# Altium footprint library ESC.PcbLib: 30 footprints (part 2 of 2)
Each footprint in its own frame and in the unit in brackets; x right, y up, seen from the top. Pads: shape width x height; smd on the part's side, far side on the other; paste and mask are expansions set on the pad; w line width, h text height; cw(c..) or ccw(c..) is an arc to the next point about the centre after c.
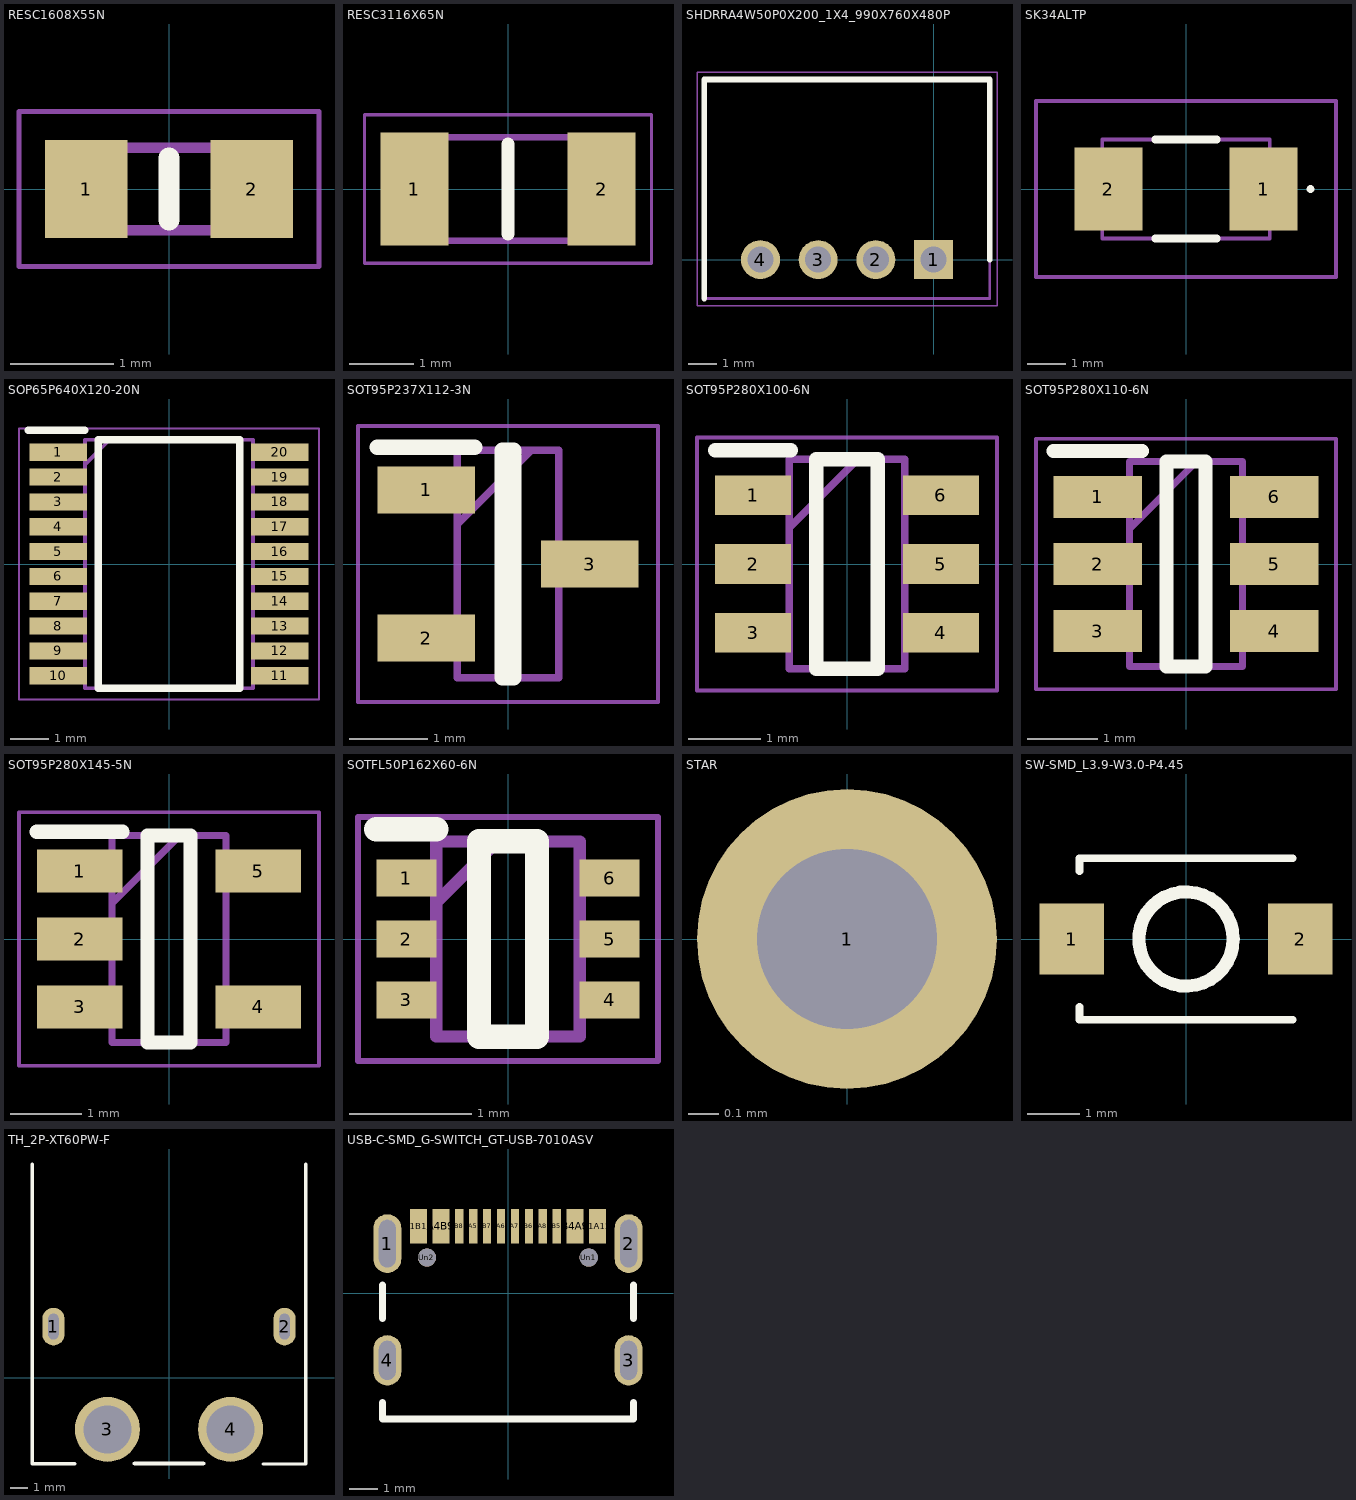
[diagram p1: the footprints below, top view; thin cyan lines are the x and y axes]

## RESC1608X55N [mm]
pads (2):
  rect 0.8x0.95 smd: 1(-0.8,0) 2(0.8,0)
Top Overlay:
  lines w0.2: 0,-0.3 0,0.3
Mechanical 13:
  lines w0.1: -0.8,-0.4 -0.8,0.4 0.8,0.4 0.8,-0.4 -0.8,-0.4
Mechanical 15:
  lines w0.05: -1.45,-0.75 -1.45,0.75 1.45,0.75 1.45,-0.75 -1.45,-0.75
3D body "RC0603FR-0710KL.stp": height 0.55, standoff 0, extent -0.8,-0.4 0.8,0.4

## RESC3116X65N [mm]
pads (2):
  rect 1.05x1.75 smd: 1(-1.45,0) 2(1.45,0)
Top Overlay:
  lines w0.2: 0,-0.7 0,0.7
Mechanical 13:
  lines w0.1: -1.55,-0.8 1.55,-0.8 1.55,0.8 -1.55,0.8 -1.55,-0.8
Mechanical 15:
  lines w0.05: -2.225,-1.15 2.225,-1.15 2.225,1.15 -2.225,1.15 -2.225,-1.15
3D body "RC1206FR-070RL.stp": height 0.65, standoff 0, extent -1.55,-0.8 1.55,0.8

## SHDRRA4W50P0X200_1X4_990X760X480P [mm]
pads (4):
  rect 1.35x1.35 hole 0.9: 1(0,0)
  round 1.35 hole 0.9: 2(-2,0) 3(-4,0) 4(-6,0)
Top Overlay:
  lines w0.2: -7.95,-1.35 -7.95,6.25 1.95,6.25 1.95,0
Mechanical 13:
  lines w0.1: -7.95,-1.35 -7.95,6.25 1.95,6.25 1.95,-1.35 -7.95,-1.35
Mechanical 15:
  lines w0.05: -8.2,-1.6 -8.2,6.5 2.2,6.5 2.2,-1.6 -8.2,-1.6
3D body "CONN-TH_4P-P2.00_S4B-PH-K-S-LF-SN.step": height 4.8, standoff -3.4, extent -7.951,-1.3 1.95,6.3

## SK34ALTP [mm]
pads (2):
  rect 1.78x2.16 smd: 1(2.025,0) 2(-2.025,0)
Top Overlay:
  lines w0.1: 3.2,0 cw(c3.25,0) 3.3,0 cw(c3.25,0) 3.2,0
  lines w0.2: -0.8,-1.292 0.8,-1.292 ; -0.8,1.293 0.8,1.293
Mechanical 13:
  lines w0.1: -2.188,-1.292 -2.188,1.293 2.188,1.293 2.188,-1.292 -2.188,-1.292
Mechanical 15:
  lines w0.1: -3.915,-2.292 -3.915,2.293 3.915,2.293 3.915,-2.292 -3.915,-2.292
3D body "SK34A-LTP.stp": height 2.26, standoff 0, extent -2.698,-1.403 2.702,1.397

## SOP65P640X120-20N [mm]
pads (20):
  rect 1.5x0.45 smd: 1(-2.9,2.925) 2(-2.9,2.275) 3(-2.9,1.625) 4(-2.9,0.975) 5(-2.9,0.325) 6(-2.9,-0.325) 7(-2.9,-0.975) 8(-2.9,-1.625) 9(-2.9,-2.275) 10(-2.9,-2.925) 11(2.9,-2.925) 12(2.9,-2.275) 13(2.9,-1.625) 14(2.9,-0.975) 15(2.9,-0.325) 16(2.9,0.325) 17(2.9,0.975) 18(2.9,1.625) 19(2.9,2.275) 20(2.9,2.925)
Top Overlay:
  lines w0.2: -3.675,3.5 -2.2,3.5 ; -1.85,-3.25 1.85,-3.25 1.85,3.25 -1.85,3.25 -1.85,-3.25
Mechanical 13:
  lines w0.1: -2.2,2.6 -1.55,3.25 ; -2.2,-3.25 2.2,-3.25 2.2,3.25 -2.2,3.25 -2.2,-3.25
Mechanical 15:
  lines w0.05: -3.925,-3.55 3.925,-3.55 3.925,3.55 -3.925,3.55 -3.925,-3.55
3D body "DRV8300DPWR.stp": height 1.13, standoff 0, extent -3.2,-3.25 3.2,3.25

## SOT95P237X112-3N [mm]
pads (3):
  rect 1.25x0.6 smd: 1(-1.05,0.95) 2(-1.05,-0.95) 3(1.05,0)
Top Overlay:
  lines w0.2: -1.675,1.5 -0.425,1.5 ; -0.075,-1.46 -0.075,1.46 0.075,1.46 0.075,-1.46 -0.075,-1.46
Mechanical 13:
  lines w0.1: -0.65,0.51 0.3,1.46 ; -0.65,-1.46 -0.65,1.46 0.65,1.46 0.65,-1.46 -0.65,-1.46
Mechanical 15:
  lines w0.05: -1.925,-1.77 -1.925,1.77 1.925,1.77 1.925,-1.77 -1.925,-1.77
3D body "TMP236A2DBZR.stp": height 1, standoff 0, extent -1.27,-1.46 1.27,1.46

## SOT95P280X100-6N [mm]
pads (6):
  rect 1.05x0.55 smd: 1(-1.3,0.95) 2(-1.3,0) 3(-1.3,-0.95) 4(1.3,-0.95) 5(1.3,0) 6(1.3,0.95)
Top Overlay:
  lines w0.2: -1.825,1.575 -0.775,1.575 ; -0.425,-1.45 -0.425,1.45 0.425,1.45 0.425,-1.45 -0.425,-1.45
Mechanical 13:
  lines w0.1: -0.8,0.5 0.15,1.45 ; -0.8,-1.45 -0.8,1.45 0.8,1.45 0.8,-1.45 -0.8,-1.45
Mechanical 15:
  lines w0.05: -2.075,-1.75 -2.075,1.75 2.075,1.75 2.075,-1.75 -2.075,-1.75
3D body "AP63200WU-7.stp": height 1, standoff 0, extent -1.4,-1.45 1.4,1.45

## SOT95P280X110-6N [mm]
pads (6):
  rect 1.25x0.6 smd: 1(-1.25,0.95) 2(-1.25,0) 3(-1.25,-0.95) 4(1.25,-0.95) 5(1.25,0) 6(1.25,0.95)
Top Overlay:
  lines w0.2: -1.875,1.6 -0.625,1.6 ; -0.275,-1.45 -0.275,1.45 0.275,1.45 0.275,-1.45 -0.275,-1.45
Mechanical 13:
  lines w0.1: -0.8,0.5 0.15,1.45 ; -0.8,-1.45 -0.8,1.45 0.8,1.45 0.8,-1.45 -0.8,-1.45
Mechanical 15:
  lines w0.05: -2.125,-1.775 -2.125,1.775 2.125,1.775 2.125,-1.775 -2.125,-1.775
3D body "TPS54202HDDCR.stp": height 0.97, standoff 0, extent -1.4,-1.45 1.4,1.45

## SOT95P280X145-5N [mm]
pads (5):
  rect 1.2x0.6 smd: 1(-1.25,0.95) 2(-1.25,0) 3(-1.25,-0.95) 4(1.25,-0.95) 5(1.25,0.95)
Top Overlay:
  lines w0.2: -1.85,1.5 -0.65,1.5 ; -0.3,-1.45 0.3,-1.45 0.3,1.45 -0.3,1.45 -0.3,-1.45
Mechanical 13:
  lines w0.1: -0.8,0.5 0.15,1.45 ; -0.8,-1.45 0.8,-1.45 0.8,1.45 -0.8,1.45 -0.8,-1.45
Mechanical 15:
  lines w0.05: -2.1,-1.775 2.1,-1.775 2.1,1.775 -2.1,1.775 -2.1,-1.775
3D body "INA180A3IDBVR.stp": height 1.2, standoff 0, extent -1.4,-1.45 1.4,1.45

## SOTFL50P162X60-6N [mm]
pads (6):
  rect 0.492x0.3 smd: 1(-0.834,0.5) 2(-0.834,0) 3(-0.834,-0.5) 4(0.834,-0.5) 5(0.834,0) 6(0.834,0.5)
Top Overlay:
  lines w0.2: -1.08,0.9 -0.588,0.9 ; -0.238,-0.8 0.238,-0.8 0.238,0.8 -0.238,0.8 -0.238,-0.8
Mechanical 13:
  lines w0.1: -0.588,0.3 -0.088,0.8 ; -0.588,-0.8 0.588,-0.8 0.588,0.8 -0.588,0.8 -0.588,-0.8
Mechanical 15:
  lines w0.05: -1.23,-1 1.23,-1 1.23,1 -1.23,1 -1.23,-1
3D body "DT1446-04V-7.stp": height 0.6, standoff 0, extent -0.813,-0.8 0.813,0.8

## STAR [mm]
pads (1):
  round 1 hole 0.6 paste+0 mask+0.102: 1(0,0)

## SW-SMD_L3.9-W3.0-P4.45 [mm]
pads (2):
  rect 1.23x1.36 smd: 1(-2.18,0) 2(2.18,0)
Top Overlay:
  circle w0.25: c0,0 r0.9
  lines w0.15: -2.03,-1.3 -2.03,-1.54 2.03,-1.54 ; -2.03,1.3 -2.03,1.54 2.03,1.54
3D body "SW-SMD_L3.9-W2.9-H2.0-LS4.8.step": height 1.95, standoff 0, extent -2.4,-1.45 2.4,1.45

## TH_2P-XT60PW-F [mm]
pads (4):
  rrect100% 1.3x2.2 hole 0.6 slot 1.5 at 90 deg: 1(-6.75,3) 2(6.75,3)
  round 3.8 hole 2.8: 3(-3.6,-3) 4(3.6,-3)
Top Overlay:
  lines w0.2: -8,12.5 -8,-5 -5.5,-5 ; 5.5,-5.026 8,-5.026 8,12.474
  lines w0.25: -2,-5 2,-5
Mechanical 6:
  circle w1.25: c-3.6,-3 r0.63
  circle w1.25: c3.6,-3 r0.63
3D body "TH_2P-XT60PW-F.step": height 8.4, standoff -4, extent -7.75,-4.8 7.75,12.4

## USB-C-SMD_G-SWITCH_GT-USB-7010ASV [mm]
pads (18):
  rrect100% 1x2.1 hole 1.7 slot 0.6 at 0 deg: 1(-4.32,1.78) 2(4.32,1.78)
  rrect100% 1x1.8 hole 1.4 slot 0.6 at 0 deg: 3(4.32,-2.4) 4(-4.32,-2.4)
  rect 0.6x1.24 smd: A1B12(-3.2,2.4) A4B9(-2.4,2.4) B1A12(3.2,2.4) B4A9(2.4,2.4)
  rect 0.3x1.24 smd: A5(-1.25,2.4) A6(-0.25,2.4) A7(0.25,2.4) A8(1.25,2.4) B5(1.75,2.4) B6(0.75,2.4) B7(-0.75,2.4) B8(-1.75,2.4)
  round 0.65 hole 0.65: Un1(2.89,1.28) Un2(-2.9,1.28)
Top Overlay:
  lines w0.25: -4.5,-3.9 -4.5,-4.5 4.5,-4.5 4.5,-3.9 ; -4.5,-0.9 -4.5,0.3 ; 4.5,-0.9 4.5,0.3
3D body "USB-C-SMD_G-SWITCH_GT-USB-7010ASV.step": height 3.16, standoff -1.5, extent -4.47,-5.05 4.47,2.85